# Altium schematic symbol library Resistor.SchLib: 44 symbols
Pins are listed as number, name and electrical type; pins without a type are passive.

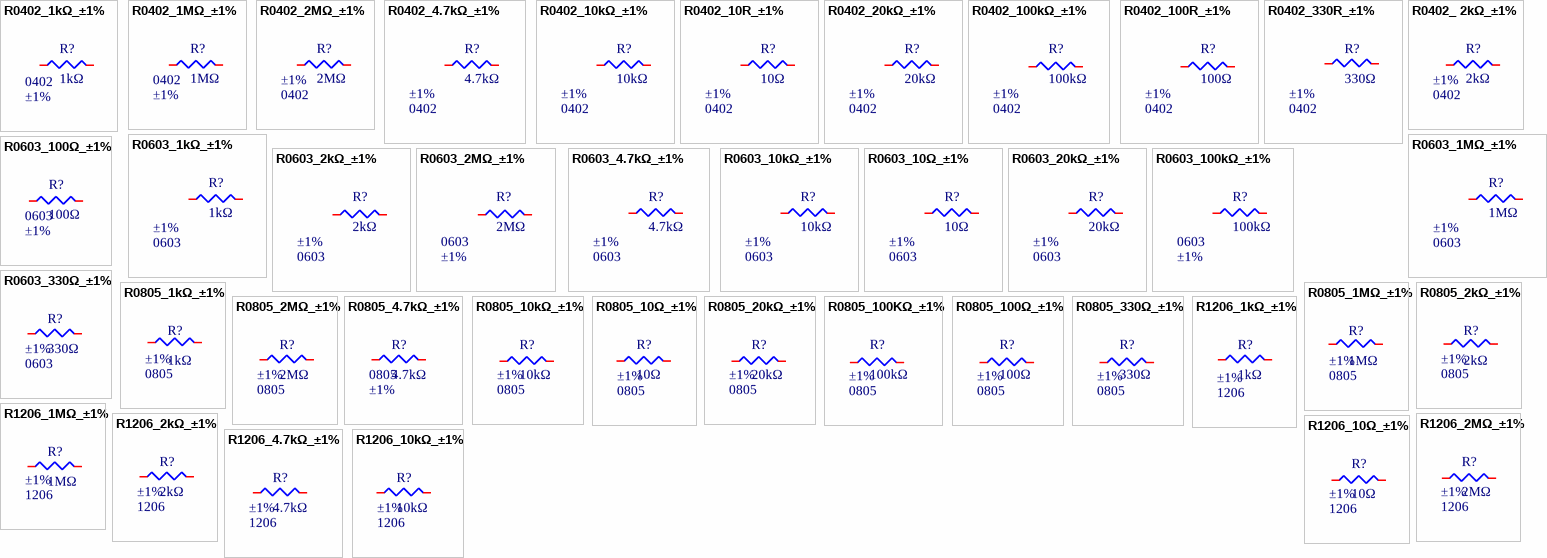
[diagram p0: symbols R0402_1kΩ_±1% to R1206_10Ω_±1%]

## R0402_1kΩ_±1%
designator R?, comment 1kΩ  Tolerance: ±1%  Package: 0402
62.5mW Thick Film Resistor 50V ±100ppm/℃ ±1% 1kΩ 0402 Chip Resistor - Surface Mount ROHS; Manufacturer: YAGEO; Mfr. Part: RC0402FR-071KL; LCSC Part: C106235; Resistance: 1kΩ; Operating Temperature: -55℃~+155℃; Link: https://www.lcsc.com/product-detail/C106235.html
footprint R0402
pins: 1, 2

## R0402_1MΩ_±1%
designator R?, comment 1MΩ  Tolerance: ±1%  Package: 0402
62.5mW Thick Film Resistor 50V ±100ppm/℃ ±1% 1MΩ 0402 Chip Resistor - Surface Mount ROHS; Manufacturer: YAGEO; Mfr. Part: RC0402FR-071ML; LCSC Part: C138033; Resistance: 1MΩ; Operating Temperature: -55℃~+155℃; Link: https://www.lcsc.com/product-detail/C138033.html
footprint R0402
pins: 1, 2

## R0402_2MΩ_±1%
designator R?, comment 2MΩ  Package: 0402  Tolerance: ±1%
62.5mW Thick Film Resistor 50V ±100ppm/℃ ±1% 2MΩ 0402 Chip Resistor - Surface Mount ROHS; Manufacturer: YAGEO; Mfr. Part: RC0402FR-072ML; LCSC Part: C138014; Resistance: 2MΩ; Operating Temperature: -55℃~+155℃; Link: https://www.lcsc.com/product-detail/C138014.html
footprint R0402
pins: 1, 2

## R0402_4.7kΩ_±1%
designator R?, comment 4.7kΩ  Package: 0402  Tolerance: ±1%
62.5mW Thick Film Resistor 50V ±100ppm/℃ ±1% 4.7kΩ 0402 Chip Resistor - Surface Mount ROHS; Manufacturer: YAGEO; Mfr. Part: RC0402FR-074K7L; LCSC Part: C105871; Resistance: 4.7kΩ; Operating Temperature: -55℃~+155℃; Link: https://www.lcsc.com/product-detail/C105871.html
footprint R0402
pins: 1, 2

## R0402_10kΩ_±1%
designator R?, comment 10kΩ  Package: 0402  Tolerance: ±1%
62.5mW Thick Film Resistor 50V ±100ppm/℃ ±1% 10kΩ 0402 Chip Resistor - Surface Mount ROHS; Manufacturer: YAGEO; Mfr. Part: RC0402FR-0710KL; LCSC Part: C60490; Resistance: 10kΩ; Operating Temperature: -55℃~+155℃; Link: https://www.lcsc.com/product-detail/C60490.html
footprint R0402
pins: 1, 2

## R0402_10R_±1%
designator R?, comment 10Ω  Package: 0402  Tolerance: ±1%
62.5mW Thick Film Resistor 50V ±1% ±200ppm/℃ 10Ω 0402 Chip Resistor - Surface Mount ROHS; Manufacturer: YAGEO; Mfr. Part: RC0402FR-0710RL; LCSC Part: C138066; Resistance: 10Ω; Operating Temperature: -55℃~+155℃; Link: https://www.lcsc.com/product-detail/C138066.html
footprint R0402
pins: 1, 2

## R0402_20kΩ_±1%
designator R?, comment 20kΩ  Package: 0402  Tolerance: ±1%
62.5mW Thick Film Resistor 50V ±100ppm/℃ ±1% 20kΩ 0402 Chip Resistor - Surface Mount ROHS; Manufacturer: YAGEO; Mfr. Part: RC0402FR-0720KL; LCSC Part: C93942; Resistance: 20kΩ; Operating Temperature: -55℃~+155℃; Link: https://www.lcsc.com/product-detail/C93942.html
footprint R0402
pins: 1, 2

## R0402_100kΩ_±1%
designator R?, comment 100kΩ  Package: 0402  Tolerance: ±1%
62.5mW Thick Film Resistor 50V ±100ppm/℃ ±1% 100kΩ 0402 Chip Resistor - Surface Mount ROHS; Manufacturer: YAGEO; Mfr. Part: RC0402FR-07100KL; LCSC Part: C60491; Resistance: 100kΩ; Operating Temperature: -55℃~+155℃; Link: https://www.lcsc.com/product-detail/C60491.html
footprint R0402
pins: 1, 2

## R0402_100R_±1%
designator R?, comment 100Ω  Package: 0402  Tolerance: ±1%
62.5mW Thick Film Resistor 50V ±100ppm/℃ ±1% 100Ω 0402 Chip Resistor - Surface Mount ROHS; Manufacturer: YAGEO; Mfr. Part: RC0402FR-07100RL; LCSC Part: C106232; Resistance: 100Ω; Operating Temperature: -55℃~+155℃; Link: https://www.lcsc.com/product-detail/C106232.html
footprint R0402
pins: 1, 2

## R0402_330R_±1%
designator R?, comment 330Ω  Package: 0402  Tolerance: ±1%
62.5mW Thick Film Resistor 50V ±100ppm/℃ ±1% 330Ω 0402 Chip Resistor - Surface Mount ROHS; Manufacturer: YAGEO; Mfr. Part: RC0402FR-07330RL; LCSC Part: C105875; Resistance: 330Ω; Operating Temperature: -55℃~+155℃; Link: https://www.lcsc.com/product-detail/C105875.html
footprint R0402
pins: 1, 2

## R0402_ 2kΩ_±1%
designator R?, comment 2kΩ  Package: 0402  Tolerance: ±1%
62.5mW Thick Film Resistor 50V ±100ppm/℃ ±1% 2kΩ 0402 Chip Resistor - Surface Mount ROHS; Manufacturer: YAGEO; Mfr. Part: RC0402FR-072KL; LCSC Part: C60488; Resistance: 2kΩ; Operating Temperature: -55℃~+155℃; Link: https://www.lcsc.com/product-detail/C60488.html
footprint R0402
pins: 1, 2

## R0603_1kΩ_±1%
designator R?, comment 1kΩ  Package: 0603  Tolerance: ±1%
100mW Thick Film Resistor 75V ±100ppm/℃ ±1% 1kΩ 0603 Chip Resistor - Surface Mount ROHS; Manufacturer: YAGEO; Mfr. Part: RC0603FR-071KL; LCSC Part: C22548; Resistance: 1kΩ; Operating Temperature: -55℃~+155℃; Link: https://www.lcsc.com/product-detail/C22548.html
footprint R0603
pins: 1, 2

## R0603_1MΩ_±1%
designator R?, comment 1MΩ  Package: 0603  Tolerance: ±1%
100mW Thick Film Resistor 75V ±100ppm/℃ ±1% 1MΩ 0603 Chip Resistor - Surface Mount ROHS; Manufacturer: YAGEO; Mfr. Part: RC0603FR-071ML; LCSC Part: C105578; Resistance: 1MΩ; Operating Temperature: -55℃~+155℃; Link: https://www.lcsc.com/product-detail/C105578.html
footprint R0603
pins: 1, 2

## R0603_2kΩ_±1%
designator R?, comment 2kΩ  Package: 0603  Tolerance: ±1%
100mW Thick Film Resistor 75V ±100ppm/℃ ±1% 2kΩ 0603 Chip Resistor - Surface Mount ROHS; Manufacturer: YAGEO; Mfr. Part: RC0603FR-072KL; LCSC Part: C105576; Resistance: 2kΩ; Operating Temperature: -55℃~+155℃; Link: https://www.lcsc.com/product-detail/C105576.html
footprint R0603
pins: 1, 2

## R0603_2MΩ_±1%
designator R?, comment 2MΩ  Tolerance: ±1%  Package: 0603
100mW Thick Film Resistor 75V ±100ppm/℃ ±1% 2MΩ 0603 Chip Resistor - Surface Mount ROHS; Manufacturer: YAGEO; Mfr. Part: RC0603FR-072ML; LCSC Part: C114615; Resistance: 2MΩ; Operating Temperature: -55℃~+155℃; Link: https://www.lcsc.com/product-detail/C114615.html
footprint R0603
pins: 1, 2

## R0603_4.7kΩ_±1%
designator R?, comment 4.7kΩ  Package: 0603  Tolerance: ±1%
100mW Thick Film Resistor 75V ±100ppm/℃ ±1% 4.7kΩ 0603 Chip Resistor - Surface Mount ROHS; Manufacturer: YAGEO; Mfr. Part: RC0603FR-074K7L; LCSC Part: C99782; Resistance: 4.7kΩ; Operating Temperature: -55℃~+155℃; Link: https://www.lcsc.com/product-detail/C99782.html
footprint R0603
pins: 1, 2

## R0603_10kΩ_±1%
designator R?, comment 10kΩ  Package: 0603  Tolerance: ±1%
100mW Thick Film Resistor 75V ±100ppm/℃ ±1% 10kΩ 0603 Chip Resistor - Surface Mount ROHS; Manufacturer: YAGEO; Mfr. Part: RC0603FR-0710KL; LCSC Part: C98220; Resistance: 10kΩ; Operating Temperature: -55℃~+155℃; Link: https://www.lcsc.com/product-detail/C98220.html
footprint R0603
pins: 1, 2

## R0603_10Ω_±1%
designator R?, comment 10Ω  Package: 0603  Tolerance: ±1%
100mW Thick Film Resistor 75V ±1% ±200ppm/℃ 10Ω 0603 Chip Resistor - Surface Mount ROHS; Manufacturer: YAGEO; Mfr. Part: RC0603FR-0710RL; LCSC Part: C109318; Resistance: 10Ω; Operating Temperature: -55℃~+155℃; Link: https://www.lcsc.com/product-detail/C109318.html
footprint R0603
pins: 1, 2

## R0603_20kΩ_±1%
designator R?, comment 20kΩ  Package: 0603  Tolerance: ±1%
100mW Thick Film Resistor 75V ±100ppm/℃ ±1% 20kΩ 0603 Chip Resistor - Surface Mount ROHS; Manufacturer: YAGEO; Mfr. Part: RC0603FR-0720KL; LCSC Part: C105575; Resistance: 20kΩ; Operating Temperature: -55℃~+155℃; Link: https://www.lcsc.com/product-detail/C105575.html
footprint R0603
pins: 1, 2

## R0603_100kΩ_±1%
designator R?, comment 100kΩ  Tolerance: ±1%  Package: 0603
100mW Thick Film Resistor 75V ±100ppm/℃ ±1% 100kΩ 0603 Chip Resistor - Surface Mount ROHS; Manufacturer: YAGEO; Mfr. Part: RC0603FR-07100KL; LCSC Part: C14675; Resistance: 100kΩ; Operating Temperature: -55℃~+155℃; Link: https://www.lcsc.com/product-detail/C14675.html
footprint R0603
pins: 1, 2

## R0603_100Ω_±1%
designator R?, comment 100Ω  Tolerance: ±1%  Package: 0603
100mW Thick Film Resistor 75V ±100ppm/℃ ±1% 100Ω 0603 Chip Resistor - Surface Mount ROHS; Manufacturer: YAGEO; Mfr. Part: RC0603FR-13100RL; LCSC Part: C845629; Resistance: 100Ω; Operating Temperature: -55℃~+155℃; Link: https://www.lcsc.com/product-detail/C845629.html
footprint R0603
pins: 1, 2

## R0603_330Ω_±1%
designator R?, comment 330Ω  Package: 0603  Tolerance: ±1%
100mW Thick Film Resistor 75V ±100ppm/℃ ±1% 330Ω 0603 Chip Resistor - Surface Mount ROHS; Manufacturer: YAGEO; Mfr. Part: RC0603FR-07330RL; LCSC Part: C105881; Resistance: 330Ω; Operating Temperature: -55℃~+155℃; Link: https://www.lcsc.com/product-detail/C105881.html
footprint R0603
pins: 1, 2

## R0805_1kΩ_±1%
designator R?, comment 1kΩ  Package: 0805  Tolerance: ±1%
125mW Thick Film Resistor 150V ±100ppm/℃ ±1% 1kΩ 0805 Chip Resistor - Surface Mount ROHS; Manufacturer: YAGEO; Mfr. Part: RC0805FR-071KL; LCSC Part: C95781; Resistance: 1kΩ; Operating Temperature: -55℃~+155℃; Link: https://www.lcsc.com/product-detail/C95781.html
footprint R0805
pins: 1, 2

## R0805_1MΩ_±1%
designator R?, comment 1MΩ  Package: 0805  Tolerance: ±1%
125mW Thick Film Resistor 150V ±100ppm/℃ ±1% 1MΩ 0805 Chip Resistor - Surface Mount ROHS; Manufacturer: YAGEO; Mfr. Part: RC0805FR-071ML; LCSC Part: C107700; Resistance: 1MΩ; Operating Temperature: -55℃~+155℃; Link: https://www.lcsc.com/product-detail/C107700.html
footprint R0805
pins: 1, 2

## R0805_2kΩ_±1%
designator R?, comment 2kΩ  Package: 0805  Tolerance: ±1%
125mW Thick Film Resistor 150V ±100ppm/℃ ±1% 2kΩ 0805 Chip Resistor - Surface Mount ROHS; Manufacturer: YAGEO; Mfr. Part: RC0805FR-072KL; LCSC Part: C114572; Resistance: 2kΩ; Operating Temperature: -55℃~+155℃; Link: https://www.lcsc.com/product-detail/C114572.html
footprint R0805
pins: 1, 2

## R0805_2MΩ_±1%
designator R?, comment 2MΩ  Package: 0805  Tolerance: ±1%
125mW Thick Film Resistor 150V ±100ppm/℃ ±1% 2MΩ 0805 Chip Resistor - Surface Mount ROHS; Manufacturer: YAGEO; Mfr. Part: RC0805FR-072ML; LCSC Part: C114532; Resistance: 2MΩ; Operating Temperature: -55℃~+155℃; Link: https://www.lcsc.com/product-detail/C114532.html
footprint R0805
pins: 1, 2

## R0805_4.7kΩ_±1%
designator R?, comment 4.7kΩ  Tolerance: ±1%  Package: 0805
125mW Thick Film Resistor 150V ±100ppm/℃ ±1% 4.7kΩ 0805 Chip Resistor - Surface Mount ROHS; Manufacturer: YAGEO; Mfr. Part: RC0805FR-074K7L; LCSC Part: C60816; Resistance: 4.7kΩ; Operating Temperature: -55℃~+155℃; Link: https://www.lcsc.com/product-detail/C60816.html
footprint R0805
pins: 1, 2

## R0805_10kΩ_±1%
designator R?, comment 10kΩ  Package: 0805  Tolerance: ±1%
125mW Thick Film Resistor 150V ±100ppm/℃ ±1% 10kΩ 0805 Chip Resistor - Surface Mount ROHS; Manufacturer: YAGEO; Mfr. Part: RC0805FR-0710KL; LCSC Part: C84376; Resistance: 10kΩ; Operating Temperature: -55℃~+155℃; Link: https://www.lcsc.com/product-detail/C84376.html
footprint R0805
pins: 1, 2

## R0805_10Ω_±1%
designator R?, comment 10Ω  Package: 0805  Tolerance: ±1%
125mW Thick Film Resistor 150V ±1% ±200ppm/℃ 10Ω 0805 Chip Resistor - Surface Mount ROHS; Manufacturer: YAGEO; Mfr. Part: RC0805FR-0710RL; LCSC Part: C96347; Resistance: 10Ω; Operating Temperature: -55℃~+155℃; Link: https://www.lcsc.com/product-detail/C96347.html
footprint R0805
pins: 1, 2

## R0805_20kΩ_±1%
designator R?, comment 20kΩ  Package: 0805  Tolerance: ±1%
125mW Thick Film Resistor 150V ±100ppm/℃ ±1% 20kΩ 0805 Chip Resistor - Surface Mount ROHS; Manufacturer: YAGEO; Mfr. Part: RC0805FR-0720KL; LCSC Part: C114566; Resistance: 20kΩ; Operating Temperature: -55℃~+155℃; Link: https://www.lcsc.com/product-detail/C114566.html
footprint R0805
pins: 1, 2

## R0805_100KΩ_±1%
designator R?, comment 100kΩ  Package: 0805  Tolerance: ±1%
125mW Thick Film Resistor 150V ±100ppm/℃ ±1% 100kΩ 0805 Chip Resistor - Surface Mount ROHS; Manufacturer: YAGEO; Mfr. Part: RC0805FR-07100KL; LCSC Part: C96346; Resistance: 100kΩ; Operating Temperature: -55℃~+155℃; Link: https://www.lcsc.com/product-detail/C96346.html
footprint R0805
pins: 1, 2

## R0805_100Ω_±1%
designator R?, comment 100Ω  Package: 0805  Tolerance: ±1%
125mW Thick Film Resistor 150V ±100ppm/℃ ±1% 100Ω 0805 Chip Resistor - Surface Mount ROHS; Manufacturer: YAGEO; Mfr. Part: RC0805FR-07100RL; LCSC Part: C105577; Resistance: 100Ω; Operating Temperature: -55℃~+155℃; Link: https://www.lcsc.com/product-detail/C105577.html
footprint R0805
pins: 1, 2

## R0805_330Ω_±1%
designator R?, comment 330Ω  Package: 0805  Tolerance: ±1%
125mW Thick Film Resistor 150V ±100ppm/℃ ±1% 330Ω 0805 Chip Resistor - Surface Mount ROHS; Manufacturer: YAGEO; Mfr. Part: RC0805FR-07330RL; LCSC Part: C105878; Resistance: 330Ω; Operating Temperature: -55℃~+155℃; Link: https://www.lcsc.com/product-detail/C105878.html
footprint R0805
pins: 1, 2

## R1206_1kΩ_±1%
designator R?, comment 1kΩ  Package: 1206  Tolerance: ±1%
250mW Thick Film Resistor 200V ±100ppm/℃ ±1% 1kΩ 1206 Chip Resistor - Surface Mount ROHS; Manufacturer: YAGEO; Mfr. Part: RC1206FR-071KL; LCSC Part: C131398; Resistance: 1kΩ; Operating Temperature: -55℃~+155℃; Link: https://www.lcsc.com/product-detail/C131398.html
footprint R1206
pins: 1, 2

## R1206_1MΩ_±1%
designator R?, comment 1MΩ  Package: 1206  Tolerance: ±1%
250mW Thick Film Resistor 200V ±100ppm/℃ ±1% 1MΩ 1206 Chip Resistor - Surface Mount ROHS; Manufacturer: YAGEO; Mfr. Part: RC1206FR-071ML; LCSC Part: C108083; Resistance: 1MΩ; Operating Temperature: -55℃~+155℃; Link: https://www.lcsc.com/product-detail/C108083.html
footprint R1206
pins: 1, 2

## R1206_2kΩ_±1%
designator R?, comment 2kΩ  Package: 1206  Tolerance: ±1%
250mW Thick Film Resistor 200V ±100ppm/℃ ±1% 2kΩ 1206 Chip Resistor - Surface Mount ROHS; Manufacturer: YAGEO; Mfr. Part: RC1206FR-072KL; LCSC Part: C133543; Resistance: 2kΩ; Operating Temperature: -55℃~+155℃; Link: https://www.lcsc.com/product-detail/C133543.html
footprint R1206
pins: 1, 2

## R1206_2MΩ_±1%
designator R?, comment 2MΩ  Package: 1206  Tolerance: ±1%
250mW Thick Film Resistor 200V ±100ppm/℃ ±1% 2MΩ 1206 Chip Resistor - Surface Mount ROHS; Manufacturer: YAGEO; Mfr. Part: RC1206FR-072ML; LCSC Part: C137328; Resistance: 2MΩ; Operating Temperature: -55℃~+155℃; Link: https://www.lcsc.com/product-detail/C137328.html
footprint R1206
pins: 1, 2

## R1206_4.7kΩ_±1%
designator R?, comment 4.7kΩ  Package: 1206  Tolerance: ±1%
250mW Thick Film Resistor 200V ±100ppm/℃ ±1% 4.7kΩ 1206 Chip Resistor - Surface Mount ROHS; Manufacturer: YAGEO; Mfr. Part: RC1206FR-074K7L; LCSC Part: C137262; Resistance: 4.7kΩ; Operating Temperature: -55℃~+155℃; Link: https://www.lcsc.com/product-detail/C137262.html
footprint R1206
pins: 1, 2

## R1206_10kΩ_±1%
designator R?, comment 10kΩ  Package: 1206  Tolerance: ±1%
250mW Thick Film Resistor 200V ±100ppm/℃ ±1% 10kΩ 1206 Chip Resistor - Surface Mount ROHS; Manufacturer: YAGEO; Mfr. Part: RC1206FR-0710KL; LCSC Part: C132649; Resistance: 10kΩ; Operating Temperature: -55℃~+155℃; Link: https://www.lcsc.com/product-detail/C132649.html
footprint R1206
pins: 1, 2

## R1206_10Ω_±1%
designator R?, comment 10Ω  Package: 1206  Tolerance: ±1%
250mW Thick Film Resistor 200V ±1% ±200ppm/℃ 10Ω 1206 Chip Resistor - Surface Mount ROHS; Manufacturer: YAGEO; Mfr. Part: RC1206FR-0710RL; LCSC Part: C108080; Resistance: 10Ω; Operating Temperature: -55℃~+155℃; Link: https://www.lcsc.com/product-detail/C108080.html
footprint R1206
pins: 1, 2

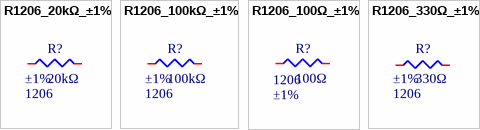
[diagram p1: symbols R1206_20kΩ_±1% to R1206_330Ω_±1%]

## R1206_20kΩ_±1%
designator R?, comment 20kΩ  Package: 1206  Tolerance: ±1%
250mW Thick Film Resistor 200V ±100ppm/℃ ±1% 20kΩ 1206 Chip Resistor - Surface Mount ROHS; Manufacturer: YAGEO; Mfr. Part: RC1206FR-0720KL; LCSC Part: C114940; Resistance: 20kΩ; Operating Temperature: -55℃~+155℃; Link: https://www.lcsc.com/product-detail/C114940.html
footprint R1206
pins: 1, 2

## R1206_100kΩ_±1%
designator R?, comment 100kΩ  Package: 1206  Tolerance: ±1%
250mW Thick Film Resistor 200V ±100ppm/℃ ±1% 100kΩ 1206 Chip Resistor - Surface Mount ROHS; Manufacturer: YAGEO; Mfr. Part: RC1206FR-07100KL; LCSC Part: C137393; Resistance: 100kΩ; Operating Temperature: -55℃~+155℃; Link: https://www.lcsc.com/product-detail/C137393.html
footprint R1206
pins: 1, 2

## R1206_100Ω_±1%
designator R?, comment 100Ω  Package: 1206  Tolerance: ±1%
250mW Thick Film Resistor 200V ±100ppm/℃ ±1% 100Ω 1206 Chip Resistor - Surface Mount ROHS; Manufacturer: YAGEO; Mfr. Part: RC1206FR-07100RL; LCSC Part: C137392; Resistance: 100Ω; Operating Temperature: -55℃~+155℃; Link: https://www.lcsc.com/product-detail/C137392.html
footprint R1206
pins: 1, 2

## R1206_330Ω_±1%
designator R?, comment 330Ω  Package: 1206  Tolerance: ±1%
250mW Thick Film Resistor 200V ±100ppm/℃ ±1% 330Ω 1206 Chip Resistor - Surface Mount ROHS; Manufacturer: YAGEO; Mfr. Part: RC1206FR-07330RL; LCSC Part: C114944; Resistance: 330Ω; Operating Temperature: -55℃~+155℃; Link: https://www.lcsc.com/product-detail/C114944.html
footprint R1206
pins: 1, 2